# Altium schematic symbol library L-50475C.Schlib: 1 symbol
Pins are listed as number, name and electrical type; pins without a type are passive.

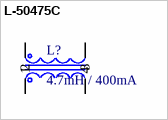
[diagram p0: symbol L-50475C]

## L-50475C
designator L?, comment 4.7mH / 400mA
Common Mode Filters / Chokes CMC 4.7mH 0.4A SM toroid
pins: 1, 2, 3, 4